# Altium schematic symbol library 振荡器.SchLib: 4 symbols
Pins are listed as number, name and electrical type; pins without a type are passive.

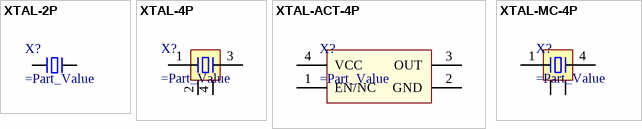
[diagram p0: symbols XTAL-2P to XTAL-MC-4P]

## XTAL-2P
designator X?
2脚无源脚晶振
pins: 1, 2

## XTAL-4P
designator X?
4脚无源晶振
pins: 1, 2, 3, 4

## XTAL-ACT-4P
designator X?
4脚有源晶振
pins: 1 EN/NC, 2 GND, 3 OUT, 4 VCC

## XTAL-MC-4P
designator X?
MC系列4脚晶振
pins: 1, 2, 3, 4